# EAGLE library part IFT7S* (library mita-akiba)
IFTs IFT7S-Y (yellow, fitst stage)/WARCA2 IFT7S-B (black, final stage)/WARCC4
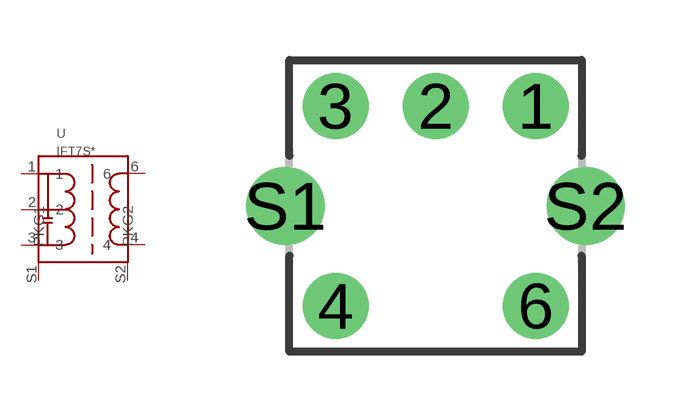
[diagram p53: symbol with the pads of 71-5; footprint 71-5]

Designator prefix -

## IFT7S  [71-5]
1  1
2  2
3  3
4  4
6  6
S1  PKG1
S2  PKG2

## Footprint 71-5 (pad centres in mm)
RF COIL ASSEMBLY 1 winding, 5 pads, grid 2.5 mm
drill 1.1: 1 2.5,2.5; 2 0,2.5; 3 -2.5,2.5; 4 -2.5,-2.5; 6 2.5,-2.5
drill 1.3: S1 -3.75,0; S2 3.75,0